# Altium footprint library SeniorProject.PcbLib: 33 footprints (part 3 of 3)
Each footprint in its own frame and in the unit in brackets; x right, y up, seen from the top. Pads: shape width x height; smd on the part's side, far side on the other; paste and mask are expansions set on the pad; w line width, h text height; cw(c..) or ccw(c..) is an arc to the next point about the centre after c.
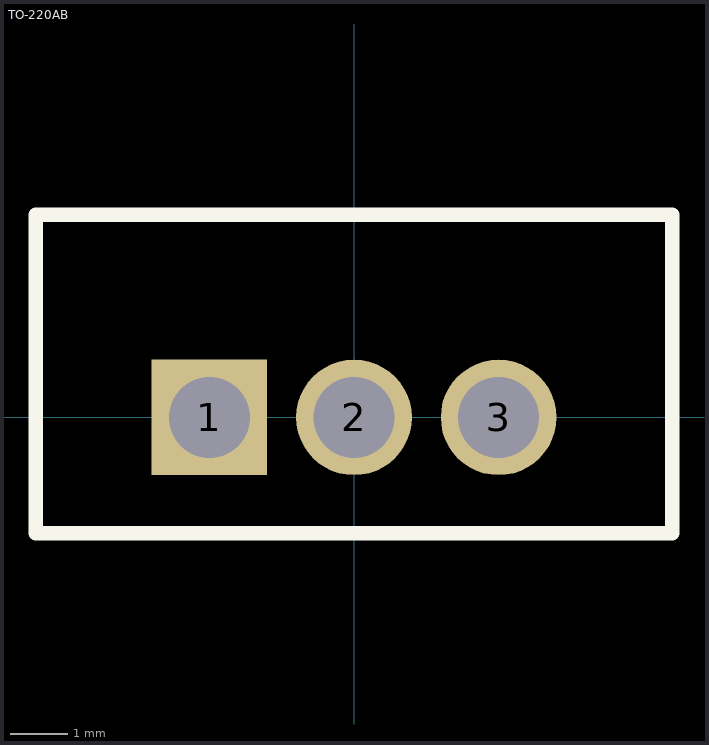
[diagram p2: the footprint, top view; thin cyan lines are the x and y axes]

## TO-220AB [mm]
pads (3):
  rect 2x2 hole 1.4: 1(-2.5,0)
  round 2 hole 1.4: 2(0,0) 3(2.5,0)
Top Overlay:
  lines w0.25: -5.5,-2 -5.5,3.5 5.5,3.5 5.5,-2 -5.5,-2
3D body "TO-220AB-ST.stp": height 19.5, standoff -9.2, extent -5.325,-1.75 5.325,3.05